# Altium footprint library PcbLib1_Drone.PcbLib: 13 footprints
Each footprint in its own frame and in the unit in brackets; x right, y up, seen from the top. Pads: shape width x height; smd on the part's side, far side on the other; paste and mask are expansions set on the pad; w line width, h text height; cw(c..) or ccw(c..) is an arc to the next point about the centre after c.
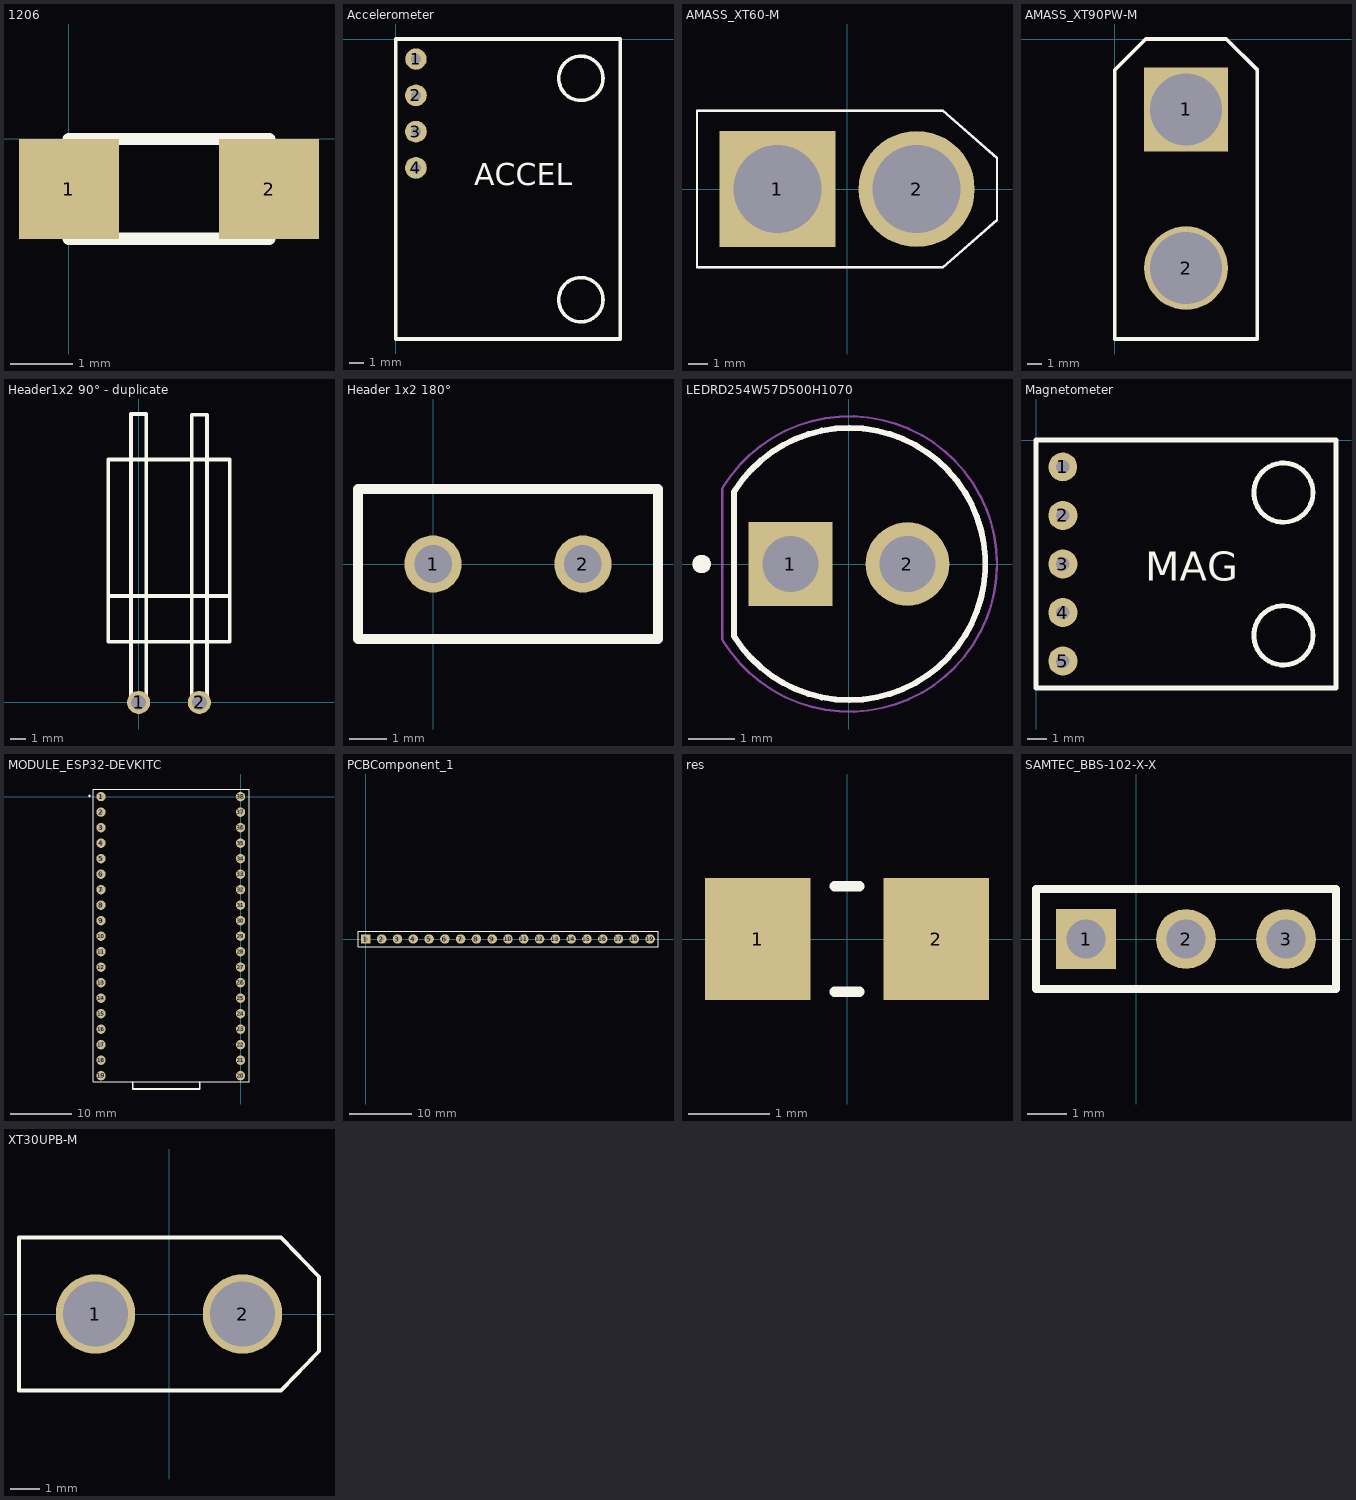
[diagram p0: the footprints below, top view; thin cyan lines are the x and y axes]

## 1206 [mm]
pads (2):
  rect 1.6x1.6 smd: 1(0,-0.8) 2(3.2,-0.8)
Top Overlay:
  lines w0.2: 0.65,-1.509 0.65,-0.015 ; 2.55,-1.524 2.55,-0.01 ; 0,-1.6 3.2,-1.6 3.2,-1.2 3.048,-1.048 3.048,-0.552 3.2,-0.4 3.2,0 0,0 0,-0.4 0.254,-0.654 0.254,-0.946 0,-1.2 0,-1.6

## Accelerometer [mm]
pads (4):
  round 1.5 hole 0.7: 1(1.405,-1.405)
  round 1.524 hole 0.7: 2(1.405,-3.945) 3(1.405,-6.485) 4(1.405,-9.025)
Top Overlay:
  circle w0.254: c12.95,-2.75 r1.55
  circle w0.254: c12.95,-18.25 r1.55
  lines w0.254: 0,-21 0,0 15.7,0 15.7,-21 0,-21
  text "ACCEL" at 5.487,-10.246 h1.52

## AMASS_XT60-M [mm]
height 16
pads (2):
  rect 6x6 / inner round 6 / far side rect 6x6 hole 4.55: 1(-3.6,0)
  round 6 hole 4.55: 2(3.6,0)
Top Overlay:
  lines w0.127: -7.75,-4.05 4.95,-4.05 7.75,-1.6 7.75,1.6 4.95,4.05 -7.75,4.05 -7.75,-4.05
Mechanical 13:
  lines w0.127: -7.75,-4.05 4.95,-4.05 7.75,-1.6 7.75,1.6 4.95,4.05 -7.75,4.05 -7.75,-4.05

## AMASS_XT90PW-M [mm]
pads (2):
  rect 5.8x5.8 / inner round 4.916 / far side rect 4.916x4.916 hole 5: 1(4.95,-4.884)
  round 5.8 hole 5: 2(4.95,-15.88)
Top Overlay:
  lines w0.254: 0,-20.8 9.9,-20.8 9.9,-2.153 7.747,0 2.159,0 0,-2.159 0,-20.8
3D body: height 0.25, standoff 0, extent 0,-20.828 9.906,0

## Header1x2 90° - duplicate [mil]
pads (2):
  round 60 hole 39.37: 1(0,0) 2(157.48,0)
Top Overlay:
  lines w10: -19.68,0 -19.68,748.03 19.68,748.03 19.68,0 ; 137.87,-1.87 137.87,746.16 177.24,746.16 177.24,-1.87 ; -78.74,157.48 236.22,157.48 ; -78.74,157.48 -78.74,275.59 236.22,275.59 236.22,157.48 ; -78.74,157.48 -78.74,629.92 236.22,629.92 236.22,157.48
3D body: height 10, standoff 0, extent -80,160 235,630

## Header 1x2 180° [mil]
pads (2):
  round 60 hole 39.37: 1(0,0) 2(157.48,0)
Top Overlay:
  lines w10: -78.74,-78.74 236.22,-78.74 236.22,78.74 -78.74,78.74 -78.74,-78.74
3D body: height 10, standoff 0, extent -80,-80 235,80

## LEDRD254W57D500H1070 [mm]
height 10.7
pads (2):
  rect 1.815x1.815 / inner round 1.815 / far side rect 1.815x1.815 hole 1.21: 1(-1.27,0)
  round 1.815 hole 1.21: 2(1.27,0)
Top Overlay:
  circle w0.2: c-3.2,0 r0.1
  lines w0.127: -2.5,-1.566 ccw(c0.006,0) -2.5,1.566 -2.5,-1.566
Mechanical 13:
  circle w0.2: c-3.2,0 r0.1
  lines w0.127: -2.5,-1.566 ccw(c0.006,0) -2.5,1.566 -2.5,-1.566
Mechanical 15:
  lines w0.05: -2.75,-1.64 -2.75,1.64 ; -2.743,-1.652 ccw(c0.007,0) -2.743,1.652
3D body "step_temp.STEP": height 9.1, standoff -17.8, extent -2.6,-2.95 2.95,2.95

## Magnetometer [mm]
pads (5):
  round 1.5 hole 0.7: 1(1.405,-1.405)
  round 1.524 hole 0.7: 2(1.405,-3.945) 3(1.405,-6.485) 4(1.405,-9.025) 5(1.405,-11.565)
Top Overlay:
  circle w0.254: c12.95,-2.75 r1.55
  circle w0.254: c12.95,-10.22 r1.55
  lines w0.254: 0,-12.97 0,0 15.7,0 15.7,-12.97 0,-12.97
  text "MAG" at 5.715,-7.366 h1.52

## MODULE_ESP32-DEVKITC [mil]
pads (38):
  round 60 hole 27.56: 1(-900,0) 2(-900,-100) 3(-900,-200) 4(-900,-300) 5(-900,-400) 6(-900,-500) 7(-900,-600) 8(-900,-700) 9(-900,-800) 10(-900,-900) 11(-900,-1000) 12(-900,-1100) 13(-900,-1200) 14(-900,-1300) 15(-900,-1400) 16(-900,-1500) 17(-900,-1600) 18(-900,-1700) 20(0,-1800) 21(0,-1700) 22(0,-1600) 24(0,-1400) 25(0,-1300) 27(0,-1100) 28(0,-1000) 29(0,-900) 30(0,-800) 31(0,-700) 32(0,-600) 34(0,-400) 35(0,-300)
  round 60.24 hole 27.56: 19(-900,-1800) 23(0,-1500) 26(0,-1200) 33(0,-500) 36(0,-200) 37(0,-100) 38(0,0)
Top Overlay:
  circle w7.87: c-973.62,4.72 r3.94
  lines w5: -949.21,-1840.55 -264.21,-1840.55 54.72,-1840.55 54.72,49.21 -119.21,49.21 -949.21,49.21 -949.21,-1840.55
  lines w10: -694.21,-1840.79 -694.21,-1885.79 -264.21,-1885.79 -264.21,-1840.55
Mechanical 13:
  circle w7.87: c-973.62,4.72 r3.94

## PCBComponent_1 [mil]
pads (19):
  rect 60x60 hole 27.56: 1(0,0)
  round 60 hole 27.56: 2(100,0) 3(200,0) 4(300,0) 5(400,0) 6(500,0) 7(600,0) 8(700,0) 9(800,0) 10(900,0) 11(1000,0) 12(1100,0) 13(1200,0) 14(1300,0) 15(1400,0) 16(1500,0) 17(1600,0) 18(1700,0) 19(1800,0)
Top Overlay:
  lines w7.87: 1475,50 1483.33,50 ; -50,-50 1850,-50 1850,50 25,50 -50,50 -50,-50

## res [mm]
pads (2):
  rect 1.3x1.5 smd: 1(-1.1,0) 2(1.1,0)
Top Overlay:
  lines w0.127: -0.15,-0.65 0.15,-0.65 ; -0.15,0.65 0.15,0.65

## SAMTEC_BBS-102-X-X [mil]
pads (3):
  rect 60x60 hole 39.37: 1(-50,0)
  round 60 hole 39.37: 2(50,0) 3(150,0)
Top Overlay:
  lines w7.87: -100,-50 -100,50 200,50 200,-50 -100,-50
Mechanical 13:
  lines w3.94: 100,-50 -100,-50 -100,50 100,50

## XT30UPB-M [mm]
pads (2):
  round 2.7 hole 2.2: 1(-2.5,0) 2(2.5,0)
Top Overlay:
  lines w0.127: -5.1,-2.6 -5.1,2.6 3.81,2.6 5.1,1.27 5.1,-1.27 3.81,-2.6 -5.1,-2.6